# Altium integrated library Analog Devices Data Converters Analog-to-Digital Converters.IntLib: 2400 symbols (part 315 of 338)
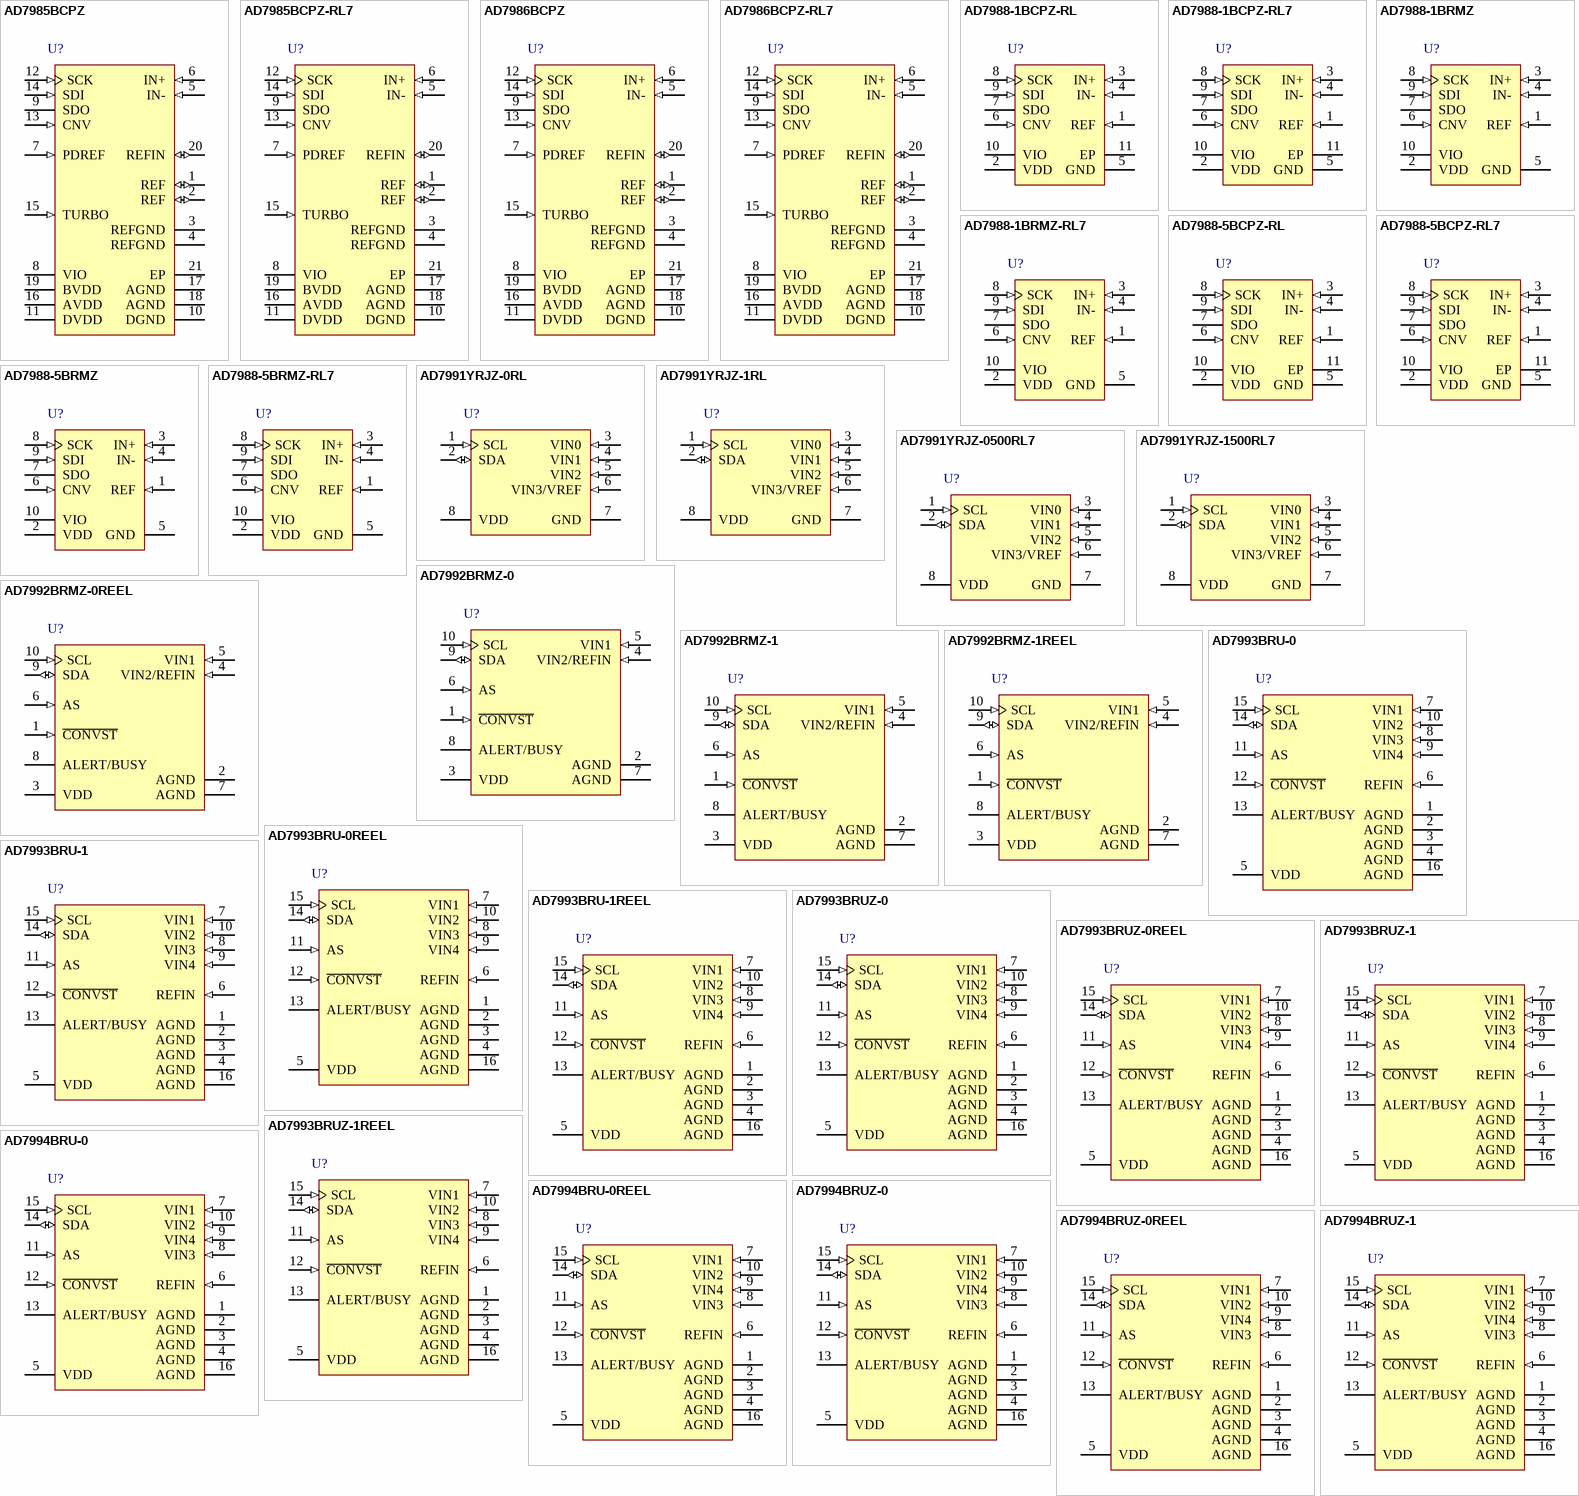
[diagram p327: symbols AD7985BCPZ to AD7994BRUZ-1]

## AD7988-1BCPZ-RL
designator U?
Single 16-Bit PulSAR Analog-to-Digital Converter with Serial, SPI Interface, 100KSPS, -40 to +125 degC, CP-10-9, Pb-Free, Reel; Part Number: AD7988-1; Manufacturer: Analog Devices; Resolution (Bits): 16; Channels: 1; Throughput Rate (SPS): 100K; Interface: Ser, SPI; DatasheetVersion: Rev.A; PackageVersion: 02-27-2012-B; PackageReference: CP-10-9; PackageDescription: 10-Lead Lead Frame Chip Scale Package [LFCSP_WD] 3 x 3 mm Body, Very Very Thin, Dual Lead; RoHS: Y; Packing: Reel; Mounting Technology: Surface Mount; ComponentLink1Description: Manufacturer URL; ComponentLink1URL: http://www.analog.com/en/index.html; ComponentLink2Description: Datasheet; ComponentLink2URL: http://www.analog.com/static/imported-files/data_sheets/AD7988-1_7988-5.pdf; ComponentLink3Description: Package Specification; ComponentLink3URL: http://www.analog.com/static/imported-files/packages/CP_10_9.pdf; ComponentLink4Description: Product URL; ComponentLink4URL: http://www.analog.com/en/analog-to-digital-converters/ad-converters/ad7988-1/products/product.html
footprint CP-10-9_N (SON, 10-Leads, Body 3x3mm, Pitch 0.5mm, Thermal Pad 2.35x1.6mm, IPC Medium Density)
footprint CP-10-9_L (SON, 10-Leads, Body 3x3mm, Pitch 0.5mm, Thermal Pad 2.35x1.6mm, IPC High Density)
footprint CP-10-9_M (SON, 10-Leads, Body 3x3mm, Pitch 0.5mm, Thermal Pad 2.35x1.6mm, IPC Low Density)
pins: 1 REF (in) "Reference Input Voltage. The VREF range is from 2.4 V to 5.1 V. It is referred to the GND pin. The GND pin should be decoupled closely to the REF pin with a 10 uF capacitor.", 2 VDD (power) "Power Supply.", 3 IN+ (in) "Analog Input. It is referred to IN-. The voltage range, for example, the difference between IN+ and IN-, is 0 V to VREF.", 4 IN- (in) "Analog Input Ground Sense. Connect to the analog ground plane or to a remote sense ground.", 5 GND (power) "Power Supply Ground.", 6 CNV (in) "Convert Input. This input has multiple functions. On its leading edge, it initiates the conversions and selects the interface mode of the part: chain mode or C\S\ mode. In C\S\ mode, the SDO pin is enabled when CNV is low. (See Datasheet)", 7 SDO (hiz) "Serial Data Output. The conversion result is output on this pin. It is synchronized to SCK.", 8 SCK (in) "Serial Data Clock Input. When the part is selected, the conversion result is shifted out by this clock.", 9 SDI (in) "Serial Data Input. This input provides multiple features. It selects the interface mode of the ADC as follows: Chain mode is selected if this pin is low during the CNV rising edge. In this mode, SDI is used as a data input (See Datasheet)", 10 VIO (power) "Input/Output Interface Digital Power. Nominally at the same supply as the host interface (1.8 V, 2.5 V, 3 V, or 5 V).", 11 EP (power) "Exposed Pad. The exposed pad can be connected to GND."

## AD7988-1BCPZ-RL7
designator U?
Single 16-Bit PulSAR Analog-to-Digital Converter with Serial, SPI Interface, 100KSPS, -40 to +125 degC, CP-10-9, Pb-Free, Reel; Part Number: AD7988-1; Manufacturer: Analog Devices; Resolution (Bits): 16; Channels: 1; Throughput Rate (SPS): 100K; Interface: Ser, SPI; DatasheetVersion: Rev.A; PackageVersion: 02-27-2012-B; PackageReference: CP-10-9; PackageDescription: 10-Lead Lead Frame Chip Scale Package [LFCSP_WD] 3 x 3 mm Body, Very Very Thin, Dual Lead; RoHS: Y; Packing: Reel; Mounting Technology: Surface Mount; ComponentLink1Description: Manufacturer URL; ComponentLink1URL: http://www.analog.com/en/index.html; ComponentLink2Description: Datasheet; ComponentLink2URL: http://www.analog.com/static/imported-files/data_sheets/AD7988-1_7988-5.pdf; ComponentLink3Description: Package Specification; ComponentLink3URL: http://www.analog.com/static/imported-files/packages/CP_10_9.pdf; ComponentLink4Description: Product URL; ComponentLink4URL: http://www.analog.com/en/analog-to-digital-converters/ad-converters/ad7988-1/products/product.html
footprint CP-10-9_N (SON, 10-Leads, Body 3x3mm, Pitch 0.5mm, Thermal Pad 2.35x1.6mm, IPC Medium Density)
footprint CP-10-9_L (SON, 10-Leads, Body 3x3mm, Pitch 0.5mm, Thermal Pad 2.35x1.6mm, IPC High Density)
footprint CP-10-9_M (SON, 10-Leads, Body 3x3mm, Pitch 0.5mm, Thermal Pad 2.35x1.6mm, IPC Low Density)
pins: 1 REF (in) "Reference Input Voltage. The VREF range is from 2.4 V to 5.1 V. It is referred to the GND pin. The GND pin should be decoupled closely to the REF pin with a 10 uF capacitor.", 2 VDD (power) "Power Supply.", 3 IN+ (in) "Analog Input. It is referred to IN-. The voltage range, for example, the difference between IN+ and IN-, is 0 V to VREF.", 4 IN- (in) "Analog Input Ground Sense. Connect to the analog ground plane or to a remote sense ground.", 5 GND (power) "Power Supply Ground.", 6 CNV (in) "Convert Input. This input has multiple functions. On its leading edge, it initiates the conversions and selects the interface mode of the part: chain mode or C\S\ mode. In C\S\ mode, the SDO pin is enabled when CNV is low. (See Datasheet)", 7 SDO (hiz) "Serial Data Output. The conversion result is output on this pin. It is synchronized to SCK.", 8 SCK (in) "Serial Data Clock Input. When the part is selected, the conversion result is shifted out by this clock.", 9 SDI (in) "Serial Data Input. This input provides multiple features. It selects the interface mode of the ADC as follows: Chain mode is selected if this pin is low during the CNV rising edge. In this mode, SDI is used as a data input (See Datasheet)", 10 VIO (power) "Input/Output Interface Digital Power. Nominally at the same supply as the host interface (1.8 V, 2.5 V, 3 V, or 5 V).", 11 EP (power) "Exposed Pad. The exposed pad can be connected to GND."

## AD7988-1BRMZ
designator U?
Single 16-Bit PulSAR Analog-to-Digital Converter with Serial, SPI Interface, 100KSPS, -40 to +125 degC, RM-10, Pb-Free, Tube; Part Number: AD7988-1; Manufacturer: Analog Devices; Resolution (Bits): 16; Channels: 1; Throughput Rate (SPS): 100K; Interface: Ser, SPI; DatasheetVersion: Rev.A; PackageVersion: May-2005; PackageReference: RM-10; PackageDescription: 10-Lead Mini Small Outline Package [MSOP]; RoHS: Y; Packing: Tube; Mounting Technology: Surface Mount; ComponentLink1Description: Manufacturer URL; ComponentLink1URL: http://www.analog.com/en/index.html; ComponentLink2Description: Datasheet; ComponentLink2URL: http://www.analog.com/static/imported-files/data_sheets/AD7988-1_7988-5.pdf; ComponentLink3Description: Package Specification; ComponentLink3URL: http://www.analog.com/static/imported-files/packages/PKG_PDF/MSOP%28RM%29/RM_10.pdf; ComponentLink4Description: Product URL; ComponentLink4URL: http://www.analog.com/en/analog-to-digital-converters/ad-converters/ad7988-1/products/product.html
footprint RM-10_N (TSSOP, 10-Leads, Body 3x3mm, Pitch 0.5mm, IPC Medium Density)
footprint RM-10_L (TSSOP, 10-Leads, Body 3x3mm, Pitch 0.5mm, IPC High Density)
footprint RM-10_M (TSSOP, 10-Leads, Body 3x3mm, Pitch 0.5mm, IPC Low Density)
pins: 1 REF (in) "Reference Input Voltage. The VREF range is from 2.4 V to 5.1 V. It is referred to the GND pin. The GND pin should be decoupled closely to the REF pin with a 10 uF capacitor.", 2 VDD (power) "Power Supply.", 3 IN+ (in) "Analog Input. It is referred to IN-. The voltage range, for example, the difference between IN+ and IN-, is 0 V to VREF.", 4 IN- (in) "Analog Input Ground Sense. Connect to the analog ground plane or to a remote sense ground.", 5 GND (power) "Power Supply Ground.", 6 CNV (in) "Convert Input. This input has multiple functions. On its leading edge, it initiates the conversions and selects the interface mode of the part: chain mode or C\S\ mode. In C\S\ mode, the SDO pin is enabled when CNV is low. (See Datasheet)", 7 SDO (hiz) "Serial Data Output. The conversion result is output on this pin. It is synchronized to SCK.", 8 SCK (in) "Serial Data Clock Input. When the part is selected, the conversion result is shifted out by this clock.", 9 SDI (in) "Serial Data Input. This input provides multiple features. It selects the interface mode of the ADC as follows: Chain mode is selected if this pin is low during the CNV rising edge. In this mode, SDI is used as a data input (See Datasheet)", 10 VIO (power) "Input/Output Interface Digital Power. Nominally at the same supply as the host interface (1.8 V, 2.5 V, 3 V, or 5 V)."

## AD7988-1BRMZ-RL7
designator U?
Single 16-Bit PulSAR Analog-to-Digital Converter with Serial, SPI Interface, 100KSPS, -40 to +125 degC, RM-10, Pb-Free, Reel; Part Number: AD7988-1; Manufacturer: Analog Devices; Resolution (Bits): 16; Channels: 1; Throughput Rate (SPS): 100K; Interface: Ser, SPI; DatasheetVersion: Rev.A; PackageVersion: May-2005; PackageReference: RM-10; PackageDescription: 10-Lead Mini Small Outline Package [MSOP]; RoHS: Y; Packing: Reel; Mounting Technology: Surface Mount; ComponentLink1Description: Manufacturer URL; ComponentLink1URL: http://www.analog.com/en/index.html; ComponentLink2Description: Datasheet; ComponentLink2URL: http://www.analog.com/static/imported-files/data_sheets/AD7988-1_7988-5.pdf; ComponentLink3Description: Package Specification; ComponentLink3URL: http://www.analog.com/static/imported-files/packages/PKG_PDF/MSOP%28RM%29/RM_10.pdf; ComponentLink4Description: Product URL; ComponentLink4URL: http://www.analog.com/en/analog-to-digital-converters/ad-converters/ad7988-1/products/product.html
footprint RM-10_N (TSSOP, 10-Leads, Body 3x3mm, Pitch 0.5mm, IPC Medium Density)
footprint RM-10_L (TSSOP, 10-Leads, Body 3x3mm, Pitch 0.5mm, IPC High Density)
footprint RM-10_M (TSSOP, 10-Leads, Body 3x3mm, Pitch 0.5mm, IPC Low Density)
pins: 1 REF (in) "Reference Input Voltage. The VREF range is from 2.4 V to 5.1 V. It is referred to the GND pin. The GND pin should be decoupled closely to the REF pin with a 10 uF capacitor.", 2 VDD (power) "Power Supply.", 3 IN+ (in) "Analog Input. It is referred to IN-. The voltage range, for example, the difference between IN+ and IN-, is 0 V to VREF.", 4 IN- (in) "Analog Input Ground Sense. Connect to the analog ground plane or to a remote sense ground.", 5 GND (power) "Power Supply Ground.", 6 CNV (in) "Convert Input. This input has multiple functions. On its leading edge, it initiates the conversions and selects the interface mode of the part: chain mode or C\S\ mode. In C\S\ mode, the SDO pin is enabled when CNV is low. (See Datasheet)", 7 SDO (hiz) "Serial Data Output. The conversion result is output on this pin. It is synchronized to SCK.", 8 SCK (in) "Serial Data Clock Input. When the part is selected, the conversion result is shifted out by this clock.", 9 SDI (in) "Serial Data Input. This input provides multiple features. It selects the interface mode of the ADC as follows: Chain mode is selected if this pin is low during the CNV rising edge. In this mode, SDI is used as a data input (See Datasheet)", 10 VIO (power) "Input/Output Interface Digital Power. Nominally at the same supply as the host interface (1.8 V, 2.5 V, 3 V, or 5 V)."

## AD7988-5BCPZ-RL
designator U?
Single 16-Bit PulSAR Analog-to-Digital Converter with Serial, SPI Interface, 500KSPS, -40 to +125 degC, CP-10-9, Pb-Free, Reel; Part Number: AD7988-5; Manufacturer: Analog Devices; Resolution (Bits): 16; Channels: 1; Throughput Rate (SPS): 500K; Interface: Ser, SPI; DatasheetVersion: Rev.A; PackageVersion: 02-27-2012-B; PackageReference: CP-10-9; PackageDescription: 10-Lead Lead Frame Chip Scale Package [LFCSP_WD] 3 x 3 mm Body, Very Very Thin, Dual Lead; RoHS: Y; Packing: Reel; Mounting Technology: Surface Mount; ComponentLink1Description: Manufacturer URL; ComponentLink1URL: http://www.analog.com/en/index.html; ComponentLink2Description: Datasheet; ComponentLink2URL: http://www.analog.com/static/imported-files/data_sheets/AD7988-1_7988-5.pdf; ComponentLink3Description: Package Specification; ComponentLink3URL: http://www.analog.com/static/imported-files/packages/CP_10_9.pdf; ComponentLink4Description: Product URL; ComponentLink4URL: http://www.analog.com/en/analog-to-digital-converters/ad-converters/ad7988-5/products/product.html
footprint CP-10-9_N (SON, 10-Leads, Body 3x3mm, Pitch 0.5mm, Thermal Pad 2.35x1.6mm, IPC Medium Density)
footprint CP-10-9_L (SON, 10-Leads, Body 3x3mm, Pitch 0.5mm, Thermal Pad 2.35x1.6mm, IPC High Density)
footprint CP-10-9_M (SON, 10-Leads, Body 3x3mm, Pitch 0.5mm, Thermal Pad 2.35x1.6mm, IPC Low Density)
pins: 1 REF (in) "Reference Input Voltage. The VREF range is from 2.4 V to 5.1 V. It is referred to the GND pin. The GND pin should be decoupled closely to the REF pin with a 10 uF capacitor.", 2 VDD (power) "Power Supply.", 3 IN+ (in) "Analog Input. It is referred to IN?. The voltage range, for example, the difference between IN+ and IN-, is 0 V to VREF.", 4 IN- (in) "Analog Input Ground Sense. Connect to the analog ground plane or to a remote sense ground.", 5 GND (power) "Power Supply Ground.", 6 CNV (in) "Convert Input. This input has multiple functions. On its leading edge, it initiates the conversions and selects the interface mode of the part: chain mode or C\S\ mode. In C\S\ mode, the SDO pin is enabled when CNV is low. (See Datasheet)", 7 SDO (hiz) "Serial Data Output. The conversion result is output on this pin. It is synchronized to SCK.", 8 SCK (in) "Serial Data Clock Input. When the part is selected, the conversion result is shifted out by this clock.", 9 SDI (in) "Serial Data Input. This input provides multiple features. It selects the interface mode of the ADC as follows: Chain mode is selected if this pin is low during the CNV rising edge. In this mode, SDI is used as a data input (See Datasheet)", 10 VIO (power) "Input/Output Interface Digital Power. Nominally at the same supply as the host interface (1.8 V, 2.5 V, 3 V, or 5 V).", 11 EP (power) "Exposed Pad. The exposed pad can be connected to GND."

## AD7988-5BCPZ-RL7
designator U?
Single 16-Bit PulSAR Analog-to-Digital Converter with Serial, SPI Interface, 500KSPS, -40 to +125 degC, CP-10-9, Pb-Free, Reel; Part Number: AD7988-5; Manufacturer: Analog Devices; Resolution (Bits): 16; Channels: 1; Throughput Rate (SPS): 500K; Interface: Ser, SPI; DatasheetVersion: Rev.A; PackageVersion: 02-27-2012-B; PackageReference: CP-10-9; PackageDescription: 10-Lead Lead Frame Chip Scale Package [LFCSP_WD] 3 x 3 mm Body, Very Very Thin, Dual Lead; RoHS: Y; Packing: Reel; Mounting Technology: Surface Mount; ComponentLink1Description: Manufacturer URL; ComponentLink1URL: http://www.analog.com/en/index.html; ComponentLink2Description: Datasheet; ComponentLink2URL: http://www.analog.com/static/imported-files/data_sheets/AD7988-1_7988-5.pdf; ComponentLink3Description: Package Specification; ComponentLink3URL: http://www.analog.com/static/imported-files/packages/CP_10_9.pdf; ComponentLink4Description: Product URL; ComponentLink4URL: http://www.analog.com/en/analog-to-digital-converters/ad-converters/ad7988-5/products/product.html
footprint CP-10-9_N (SON, 10-Leads, Body 3x3mm, Pitch 0.5mm, Thermal Pad 2.35x1.6mm, IPC Medium Density)
footprint CP-10-9_L (SON, 10-Leads, Body 3x3mm, Pitch 0.5mm, Thermal Pad 2.35x1.6mm, IPC High Density)
footprint CP-10-9_M (SON, 10-Leads, Body 3x3mm, Pitch 0.5mm, Thermal Pad 2.35x1.6mm, IPC Low Density)
pins: 1 REF (in) "Reference Input Voltage. The VREF range is from 2.4 V to 5.1 V. It is referred to the GND pin. The GND pin should be decoupled closely to the REF pin with a 10 uF capacitor.", 2 VDD (power) "Power Supply.", 3 IN+ (in) "Analog Input. It is referred to IN?. The voltage range, for example, the difference between IN+ and IN-, is 0 V to VREF.", 4 IN- (in) "Analog Input Ground Sense. Connect to the analog ground plane or to a remote sense ground.", 5 GND (power) "Power Supply Ground.", 6 CNV (in) "Convert Input. This input has multiple functions. On its leading edge, it initiates the conversions and selects the interface mode of the part: chain mode or C\S\ mode. In C\S\ mode, the SDO pin is enabled when CNV is low. (See Datasheet)", 7 SDO (hiz) "Serial Data Output. The conversion result is output on this pin. It is synchronized to SCK.", 8 SCK (in) "Serial Data Clock Input. When the part is selected, the conversion result is shifted out by this clock.", 9 SDI (in) "Serial Data Input. This input provides multiple features. It selects the interface mode of the ADC as follows: Chain mode is selected if this pin is low during the CNV rising edge. In this mode, SDI is used as a data input (See Datasheet)", 10 VIO (power) "Input/Output Interface Digital Power. Nominally at the same supply as the host interface (1.8 V, 2.5 V, 3 V, or 5 V).", 11 EP (power) "Exposed Pad. The exposed pad can be connected to GND."

## AD7988-5BRMZ
designator U?
Single 16-Bit PulSAR Analog-to-Digital Converter with Serial, SPI Interface, 500KSPS, -40 to +125 degC, RM-10, Pb-Free, Tube; Part Number: AD7988-5; Manufacturer: Analog Devices; Resolution (Bits): 16; Channels: 1; Throughput Rate (SPS): 500K; Interface: Ser, SPI; DatasheetVersion: Rev.A; PackageVersion: May-2005; PackageReference: RM-10; PackageDescription: 10-Lead Mini Small Outline Package [MSOP]; RoHS: Y; Packing: Tube; Mounting Technology: Surface Mount; ComponentLink1Description: Manufacturer URL; ComponentLink1URL: http://www.analog.com/en/index.html; ComponentLink2Description: Datasheet; ComponentLink2URL: http://www.analog.com/static/imported-files/data_sheets/AD7988-1_7988-5.pdf; ComponentLink3Description: Package Specification; ComponentLink3URL: http://www.analog.com/static/imported-files/packages/PKG_PDF/MSOP%28RM%29/RM_10.pdf; ComponentLink4Description: Product URL; ComponentLink4URL: http://www.analog.com/en/analog-to-digital-converters/ad-converters/ad7988-5/products/product.html
footprint RM-10_N (TSSOP, 10-Leads, Body 3x3mm, Pitch 0.5mm, IPC Medium Density)
footprint RM-10_L (TSSOP, 10-Leads, Body 3x3mm, Pitch 0.5mm, IPC High Density)
footprint RM-10_M (TSSOP, 10-Leads, Body 3x3mm, Pitch 0.5mm, IPC Low Density)
pins: 1 REF (in) "Reference Input Voltage. The VREF range is from 2.4 V to 5.1 V. It is referred to the GND pin. The GND pin should be decoupled closely to the REF pin with a 10 uF capacitor.", 2 VDD (power) "Power Supply", 3 IN+ (in) "Analog Input. It is referred to IN-. The voltage range, for example, the difference between IN+ and IN-, is 0 V to VREF", 4 IN- (in) "Analog Input Ground Sense. Connect to the analog ground plane or to a remote sense ground.", 5 GND (power) "Power Supply Ground.", 6 CNV (in) "Convert Input. This input has multiple functions. On its leading edge, it initiates the conversions and selects the interface mode of the part: chain mode or C\S\ mode. In C\S\ mode, the SDO pin is enabled when CNV is low. (See Datasheet)", 7 SDO (hiz) "Serial Data Output. The conversion result is output on this pin. It is synchronized to SCK.", 8 SCK (in) "Serial Data Clock Input. When the part is selected, the conversion result is shifted out by this clock.", 9 SDI (in) "Serial Data Input. This input provides multiple features. It selects the interface mode of the ADC as follows: Chain mode is selected if this pin is low during the CNV rising edge. In this mode, SDI is used as a data input (See Datasheet)", 10 VIO (power) "Input/Output Interface Digital Power. Nominally at the same supply as the host interface (1.8 V, 2.5 V, 3 V, or 5 V)."

## AD7988-5BRMZ-RL7
designator U?
Single 16-Bit PulSAR Analog-to-Digital Converter with Serial, SPI Interface, 500KSPS, -40 to +125 degC, RM-10, Pb-Free, Reel; Part Number: AD7988-5; Manufacturer: Analog Devices; Resolution (Bits): 16; Channels: 1; Throughput Rate (SPS): 500K; Interface: Ser, SPI; DatasheetVersion: Rev.A; PackageVersion: May-2005; PackageReference: RM-10; PackageDescription: 10-Lead Mini Small Outline Package [MSOP]; RoHS: Y; Packing: Reel; Mounting Technology: Surface Mount; ComponentLink1Description: Manufacturer URL; ComponentLink1URL: http://www.analog.com/en/index.html; ComponentLink2Description: Datasheet; ComponentLink2URL: http://www.analog.com/static/imported-files/data_sheets/AD7988-1_7988-5.pdf; ComponentLink3Description: Package Specification; ComponentLink3URL: http://www.analog.com/static/imported-files/packages/PKG_PDF/MSOP%28RM%29/RM_10.pdf; ComponentLink4Description: Product URL; ComponentLink4URL: http://www.analog.com/en/analog-to-digital-converters/ad-converters/ad7988-5/products/product.html
footprint RM-10_N (TSSOP, 10-Leads, Body 3x3mm, Pitch 0.5mm, IPC Medium Density)
footprint RM-10_L (TSSOP, 10-Leads, Body 3x3mm, Pitch 0.5mm, IPC High Density)
footprint RM-10_M (TSSOP, 10-Leads, Body 3x3mm, Pitch 0.5mm, IPC Low Density)
pins: 1 REF (in) "Reference Input Voltage. The VREF range is from 2.4 V to 5.1 V. It is referred to the GND pin. The GND pin should be decoupled closely to the REF pin with a 10 uF capacitor.", 2 VDD (power) "Power Supply", 3 IN+ (in) "Analog Input. It is referred to IN-. The voltage range, for example, the difference between IN+ and IN-, is 0 V to VREF", 4 IN- (in) "Analog Input Ground Sense. Connect to the analog ground plane or to a remote sense ground.", 5 GND (power) "Power Supply Ground.", 6 CNV (in) "Convert Input. This input has multiple functions. On its leading edge, it initiates the conversions and selects the interface mode of the part: chain mode or C\S\ mode. In C\S\ mode, the SDO pin is enabled when CNV is low. (See Datasheet)", 7 SDO (hiz) "Serial Data Output. The conversion result is output on this pin. It is synchronized to SCK.", 8 SCK (in) "Serial Data Clock Input. When the part is selected, the conversion result is shifted out by this clock.", 9 SDI (in) "Serial Data Input. This input provides multiple features. It selects the interface mode of the ADC as follows: Chain mode is selected if this pin is low during the CNV rising edge. In this mode, SDI is used as a data input (See Datasheet)", 10 VIO (power) "Input/Output Interface Digital Power. Nominally at the same supply as the host interface (1.8 V, 2.5 V, 3 V, or 5 V)."

## AD7991YRJZ-0RL
designator U?
Quad 12-Bit Analog-to-Digital Converter with I2C, Serial 2-Wire Interface, 140KSPS, -40 to +125 degC, RJ-8, Pb-Free, Reel; Part Number: AD7991; Manufacturer: Analog Devices; Resolution (Bits): 12; Channels: 4; Throughput Rate (SPS): 140K; Interface: I2C/Ser 2-Wire; DatasheetVersion: Rev.B; PackageVersion: 121608-A; PackageReference: RJ-8; PackageDescription: 8-Lead Thin Small Outline Transistor Package [SOT-23]; RoHS: Y; Packing: Reel; Mounting Technology: Surface Mount; Code_JEDEC: MO-178-BA; ComponentLink1Description: Manufacturer URL; ComponentLink1URL: http://www.analog.com/en/index.html; ComponentLink2Description: Datasheet; ComponentLink2URL: http://www.analog.com/static/imported-files/data_sheets/AD7991_7995_7999.pdf; ComponentLink3Description: Package Specification; ComponentLink3URL: http://www.analog.com/static/imported-files/packages/PKG_PDF/SOT-23(RJ)/RJ_8.pdf; ComponentLink4Description: Product URL; ComponentLink4URL: http://www.analog.com/en/analog-to-digital-converters/ad-converters/ad7991/products/product.html
footprint RJ-8_N (SOP, 8-Leads, Body 2.9x1.6mm, Pitch 0.65mm, IPC Medium Density)
footprint RJ-8_L (SOP, 8-Leads, Body 2.9x1.6mm, Pitch 0.65mm, IPC High Density)
footprint RJ-8_M (SOP, 8-Leads, Body 2.9x1.6mm, Pitch 0.65mm, IPC Low Density)
pins: 1 SCL (in) "Digital Input. Serial bus clock. External pull-up resistor required.", 2 SDA (io) "Digital I/O. Serial bus bidirectional data. Open-drain output. External pull-up resistor required.", 3 VIN0 (in) "Analog Input 1. Single-ended analog input channel. The input range is 0 V to VREF.", 4 VIN1 (in) "Analog Input 2. Single-ended analog input channel. The input range is 0 V to VREF.", 5 VIN2 (in) "Analog Input 3. Single-ended analog input channel. The input range is 0 V to VREF.", 6 VIN3/VREF (in) "Analog Input 4. Single-ended analog input channel. The input range is 0 V to VREF. Can also be used to input an external VREF signal.", 7 GND (power) "Analog Ground. Ground reference point for all circuitry on the AD7991/AD7995/AD7999. All analog input signals should be referred to this AGND voltage.", 8 VDD (power) "Power Supply Input. The VDD range for the AD7991/AD7995/AD7999 is from 2.7 V to 5.5 V."

## AD7991YRJZ-1RL
designator U?
Quad 12-Bit Analog-to-Digital Converter with I2C, Serial 2-Wire Interface, 140KSPS, -40 to +125 degC, RJ-8, Pb-Free, Reel; Part Number: AD7991; Manufacturer: Analog Devices; Resolution (Bits): 12; Channels: 4; Throughput Rate (SPS): 140K; Interface: I2C/Ser 2-Wire; DatasheetVersion: Rev.B; PackageVersion: 121608-A; PackageReference: RJ-8; PackageDescription: 8-Lead Thin Small Outline Transistor Package [SOT-23]; RoHS: Y; Packing: Reel; Mounting Technology: Surface Mount; Code_JEDEC: MO-178-BA; ComponentLink1Description: Manufacturer URL; ComponentLink1URL: http://www.analog.com/en/index.html; ComponentLink2Description: Datasheet; ComponentLink2URL: http://www.analog.com/static/imported-files/data_sheets/AD7991_7995_7999.pdf; ComponentLink3Description: Package Specification; ComponentLink3URL: http://www.analog.com/static/imported-files/packages/PKG_PDF/SOT-23(RJ)/RJ_8.pdf; ComponentLink4Description: Product URL; ComponentLink4URL: http://www.analog.com/en/analog-to-digital-converters/ad-converters/ad7991/products/product.html
footprint RJ-8_N (SOP, 8-Leads, Body 2.9x1.6mm, Pitch 0.65mm, IPC Medium Density)
footprint RJ-8_L (SOP, 8-Leads, Body 2.9x1.6mm, Pitch 0.65mm, IPC High Density)
footprint RJ-8_M (SOP, 8-Leads, Body 2.9x1.6mm, Pitch 0.65mm, IPC Low Density)
pins: 1 SCL (in) "Digital Input. Serial bus clock. External pull-up resistor required.", 2 SDA (io) "Digital I/O. Serial bus bidirectional data. Open-drain output. External pull-up resistor required.", 3 VIN0 (in) "Analog Input 1. Single-ended analog input channel. The input range is 0 V to VREF.", 4 VIN1 (in) "Analog Input 2. Single-ended analog input channel. The input range is 0 V to VREF.", 5 VIN2 (in) "Analog Input 3. Single-ended analog input channel. The input range is 0 V to VREF.", 6 VIN3/VREF (in) "Analog Input 4. Single-ended analog input channel. The input range is 0 V to VREF. Can also be used to input an external VREF signal.", 7 GND (power) "Analog Ground. Ground reference point for all circuitry on the AD7991/AD7995/AD7999. All analog input signals should be referred to this AGND voltage.", 8 VDD (power) "Power Supply Input. The VDD range for the AD7991/AD7995/AD7999 is from 2.7 V to 5.5 V."

## AD7991YRJZ-0500RL7
designator U?
Quad 12-Bit Analog-to-Digital Converter with I2C, Serial 2-Wire Interface, 140KSPS, -40 to +125 degC, RJ-8, Pb-Free, Reel; Part Number: AD7991; Manufacturer: Analog Devices; Resolution (Bits): 12; Channels: 4; Throughput Rate (SPS): 140K; Interface: I2C/Ser 2-Wire; DatasheetVersion: Rev.B; PackageVersion: 121608-A; PackageReference: RJ-8; PackageDescription: 8-Lead Thin Small Outline Transistor Package [SOT-23]; RoHS: Y; Packing: Reel; Mounting Technology: Surface Mount; Code_JEDEC: MO-178-BA; ComponentLink1Description: Manufacturer URL; ComponentLink1URL: http://www.analog.com/en/index.html; ComponentLink2Description: Datasheet; ComponentLink2URL: http://www.analog.com/static/imported-files/data_sheets/AD7991_7995_7999.pdf; ComponentLink3Description: Package Specification; ComponentLink3URL: http://www.analog.com/static/imported-files/packages/PKG_PDF/SOT-23(RJ)/RJ_8.pdf; ComponentLink4Description: Product URL; ComponentLink4URL: http://www.analog.com/en/analog-to-digital-converters/ad-converters/ad7991/products/product.html
footprint RJ-8_N (SOP, 8-Leads, Body 2.9x1.6mm, Pitch 0.65mm, IPC Medium Density)
footprint RJ-8_L (SOP, 8-Leads, Body 2.9x1.6mm, Pitch 0.65mm, IPC High Density)
footprint RJ-8_M (SOP, 8-Leads, Body 2.9x1.6mm, Pitch 0.65mm, IPC Low Density)
pins: 1 SCL (in) "Digital Input. Serial bus clock. External pull-up resistor required.", 2 SDA (io) "Digital I/O. Serial bus bidirectional data. Open-drain output. External pull-up resistor required.", 3 VIN0 (in) "Analog Input 1. Single-ended analog input channel. The input range is 0 V to VREF.", 4 VIN1 (in) "Analog Input 2. Single-ended analog input channel. The input range is 0 V to VREF.", 5 VIN2 (in) "Analog Input 3. Single-ended analog input channel. The input range is 0 V to VREF.", 6 VIN3/VREF (in) "Analog Input 4. Single-ended analog input channel. The input range is 0 V to VREF. Can also be used to input an external VREF signal.", 7 GND (power) "Analog Ground. Ground reference point for all circuitry on the AD7991/AD7995/AD7999. All analog input signals should be referred to this AGND voltage.", 8 VDD (power) "Power Supply Input. The VDD range for the AD7991/AD7995/AD7999 is from 2.7 V to 5.5 V."

## AD7991YRJZ-1500RL7
designator U?
Quad 12-Bit Analog-to-Digital Converter with I2C, Serial 2-Wire Interface, 140KSPS, -40 to +125 degC, RJ-8, Pb-Free, Reel; Part Number: AD7991; Manufacturer: Analog Devices; Resolution (Bits): 12; Channels: 4; Throughput Rate (SPS): 140K; Interface: I2C/Ser 2-Wire; DatasheetVersion: Rev.B; PackageVersion: 121608-A; PackageReference: RJ-8; PackageDescription: 8-Lead Thin Small Outline Transistor Package [SOT-23]; RoHS: Y; Packing: Reel; Mounting Technology: Surface Mount; Code_JEDEC: MO-178-BA; ComponentLink1Description: Manufacturer URL; ComponentLink1URL: http://www.analog.com/en/index.html; ComponentLink2Description: Datasheet; ComponentLink2URL: http://www.analog.com/static/imported-files/data_sheets/AD7991_7995_7999.pdf; ComponentLink3Description: Package Specification; ComponentLink3URL: http://www.analog.com/static/imported-files/packages/PKG_PDF/SOT-23(RJ)/RJ_8.pdf; ComponentLink4Description: Product URL; ComponentLink4URL: http://www.analog.com/en/analog-to-digital-converters/ad-converters/ad7991/products/product.html
footprint RJ-8_N (SOP, 8-Leads, Body 2.9x1.6mm, Pitch 0.65mm, IPC Medium Density)
footprint RJ-8_L (SOP, 8-Leads, Body 2.9x1.6mm, Pitch 0.65mm, IPC High Density)
footprint RJ-8_M (SOP, 8-Leads, Body 2.9x1.6mm, Pitch 0.65mm, IPC Low Density)
pins: 1 SCL (in) "Digital Input. Serial bus clock. External pull-up resistor required.", 2 SDA (io) "Digital I/O. Serial bus bidirectional data. Open-drain output. External pull-up resistor required.", 3 VIN0 (in) "Analog Input 1. Single-ended analog input channel. The input range is 0 V to VREF.", 4 VIN1 (in) "Analog Input 2. Single-ended analog input channel. The input range is 0 V to VREF.", 5 VIN2 (in) "Analog Input 3. Single-ended analog input channel. The input range is 0 V to VREF.", 6 VIN3/VREF (in) "Analog Input 4. Single-ended analog input channel. The input range is 0 V to VREF. Can also be used to input an external VREF signal.", 7 GND (power) "Analog Ground. Ground reference point for all circuitry on the AD7991/AD7995/AD7999. All analog input signals should be referred to this AGND voltage.", 8 VDD (power) "Power Supply Input. The VDD range for the AD7991/AD7995/AD7999 is from 2.7 V to 5.5 V."

## AD7992BRMZ-0
designator U?
Dual 12-Bit Analog-to-Digital Converter with I2C / Ser 2-Wire, Serial Interface, 79KSPS, -40 to +125 degC, RM-10, Pb-Free, Tube; Part Number: AD7992; Manufacturer: Analog Devices; Resolution (Bits): 12; Channels: 2; Throughput Rate (SPS): 79K; DatasheetVersion: Rev.0; PackageVersion: May-2005; PackageReference: RM-10; PackageDescription: 10-Lead Mini Small Outline Package [MSOP]; Interface: I2C/Ser 2-Wire, Ser; RoHS: Y; Packing: Tube; Mounting Technology: Surface Mount; ComponentLink1Description: Manufacturer URL; ComponentLink1URL: http://www.analog.com/en/index.html; ComponentLink2Description: Datasheet; ComponentLink2URL: http://www.analog.com/static/imported-files/data_sheets/AD7992.pdf; ComponentLink3Description: Package Specification; ComponentLink3URL: http://www.analog.com/static/imported-files/packages/PKG_PDF/MSOP%28RM%29/RM_10.pdf; ComponentLink4Description: Product URL; ComponentLink4URL: http://www.analog.com/en/analog-to-digital-converters/ad-converters/ad7992/products/product.html
footprint RM-10_N (TSSOP, 10-Leads, Body 3x3mm, Pitch 0.5mm, IPC Medium Density)
footprint RM-10_L (TSSOP, 10-Leads, Body 3x3mm, Pitch 0.5mm, IPC High Density)
footprint RM-10_M (TSSOP, 10-Leads, Body 3x3mm, Pitch 0.5mm, IPC Low Density)
pins: 1 ~{CONVST} (in) "Logic Input Signal. Convert start signal. This is an edge-triggered logic input. The rising edge of this signal powers up the part. The power up time for the part is 1 us. The falling edge of C\O\N\V\S\T\ places the (See Datasheet)", 2 AGND (power) "Analog Ground. Ground reference point for all circuitry on the AD7992. All analog input signals should be referred to this GND voltage.", 3 VDD (power) "Power Supply Input. The VDD range for the AD7992 is from 2.7 V to 5.5 V.", 4 VIN2/REFIN (in) "Analog Input 2/Voltage Reference Input. In single-channel mode, this pin becomes the reference voltage input; an external reference should be applied at this pin. The external reference input range is 1.2 V to VDD. A 0.1 uF (See Datasheet)", 5 VIN1 (in) "Analog Input 1. Single-ended analog input channel. The input range is 0 V to REFIN.", 6 AS (in) "Logic Input. Address select input that selects one of three I2C addresses for the AD7992, as shown in Table 6.", 7 AGND (power) "Analog Ground. Ground reference point for all circuitry on the AD7992. All analog input signals should be referred to this GND voltage.", 8 ALERT/BUSY (oc) "Digital Output. Selectable as an ALERT or BUSY output function. When configured as an ALERT, this pin acts as an out-of-range indicator and, if enabled, becomes active when the conversion result violates the DATAHIGH or (See Datasheet)", 9 SDA (io) "Digital I/O. Serial bus bidirectional data. Open-drain output. An external pull-up resistor is required.", 10 SCL (in) "Digital Input. Serial bus clock. Open-drain output. An external pull-up resistor is required."

## AD7992BRMZ-0REEL
designator U?
Dual 12-Bit Analog-to-Digital Converter with I2C / Ser 2-Wire, Serial Interface, 79KSPS, -40 to +125 degC, RM-10, Pb-Free, Reel; Part Number: AD7992; Manufacturer: Analog Devices; Resolution (Bits): 12; Channels: 2; Throughput Rate (SPS): 79K; DatasheetVersion: Rev.0; PackageVersion: May-2005; PackageReference: RM-10; PackageDescription: 10-Lead Mini Small Outline Package [MSOP]; Interface: I2C/Ser 2-Wire, Ser; RoHS: Y; Packing: Reel; Mounting Technology: Surface Mount; ComponentLink1Description: Manufacturer URL; ComponentLink1URL: http://www.analog.com/en/index.html; ComponentLink2Description: Datasheet; ComponentLink2URL: http://www.analog.com/static/imported-files/data_sheets/AD7992.pdf; ComponentLink3Description: Package Specification; ComponentLink3URL: http://www.analog.com/static/imported-files/packages/PKG_PDF/MSOP%28RM%29/RM_10.pdf; ComponentLink4Description: Product URL; ComponentLink4URL: http://www.analog.com/en/analog-to-digital-converters/ad-converters/ad7992/products/product.html
footprint RM-10_N (TSSOP, 10-Leads, Body 3x3mm, Pitch 0.5mm, IPC Medium Density)
footprint RM-10_L (TSSOP, 10-Leads, Body 3x3mm, Pitch 0.5mm, IPC High Density)
footprint RM-10_M (TSSOP, 10-Leads, Body 3x3mm, Pitch 0.5mm, IPC Low Density)
pins: 1 ~{CONVST} (in) "Logic Input Signal. Convert start signal. This is an edge-triggered logic input. The rising edge of this signal powers up the part. The power up time for the part is 1 us. The falling edge of C\O\N\V\S\T\ places the (See Datasheet)", 2 AGND (power) "Analog Ground. Ground reference point for all circuitry on the AD7992. All analog input signals should be referred to this GND voltage.", 3 VDD (power) "Power Supply Input. The VDD range for the AD7992 is from 2.7 V to 5.5 V.", 4 VIN2/REFIN (in) "Analog Input 2/Voltage Reference Input. In single-channel mode, this pin becomes the reference voltage input; an external reference should be applied at this pin. The external reference input range is 1.2 V to VDD. A 0.1 uF (See Datasheet)", 5 VIN1 (in) "Analog Input 1. Single-ended analog input channel. The input range is 0 V to REFIN.", 6 AS (in) "Logic Input. Address select input that selects one of three I2C addresses for the AD7992, as shown in Table 6.", 7 AGND (power) "Analog Ground. Ground reference point for all circuitry on the AD7992. All analog input signals should be referred to this GND voltage.", 8 ALERT/BUSY (oc) "Digital Output. Selectable as an ALERT or BUSY output function. When configured as an ALERT, this pin acts as an out-of-range indicator and, if enabled, becomes active when the conversion result violates the DATAHIGH or (See Datasheet)", 9 SDA (io) "Digital I/O. Serial bus bidirectional data. Open-drain output. An external pull-up resistor is required.", 10 SCL (in) "Digital Input. Serial bus clock. Open-drain output. An external pull-up resistor is required."

## AD7992BRMZ-1
designator U?
Dual 12-Bit Analog-to-Digital Converter with I2C / Ser 2-Wire, Serial Interface, 79KSPS, -40 to +125 degC, RM-10, Pb-Free, Tube; Part Number: AD7992; Manufacturer: Analog Devices; Resolution (Bits): 12; Channels: 2; Throughput Rate (SPS): 79K; DatasheetVersion: Rev.0; PackageVersion: May-2005; PackageReference: RM-10; PackageDescription: 10-Lead Mini Small Outline Package [MSOP]; Interface: I2C/Ser 2-Wire, Ser; RoHS: Y; Packing: Tube; Mounting Technology: Surface Mount; ComponentLink1Description: Manufacturer URL; ComponentLink1URL: http://www.analog.com/en/index.html; ComponentLink2Description: Datasheet; ComponentLink2URL: http://www.analog.com/static/imported-files/data_sheets/AD7992.pdf; ComponentLink3Description: Package Specification; ComponentLink3URL: http://www.analog.com/static/imported-files/packages/PKG_PDF/MSOP%28RM%29/RM_10.pdf; ComponentLink4Description: Product URL; ComponentLink4URL: http://www.analog.com/en/analog-to-digital-converters/ad-converters/ad7992/products/product.html
footprint RM-10_N (TSSOP, 10-Leads, Body 3x3mm, Pitch 0.5mm, IPC Medium Density)
footprint RM-10_L (TSSOP, 10-Leads, Body 3x3mm, Pitch 0.5mm, IPC High Density)
footprint RM-10_M (TSSOP, 10-Leads, Body 3x3mm, Pitch 0.5mm, IPC Low Density)
pins: 1 ~{CONVST} (in) "Logic Input Signal. Convert start signal. This is an edge-triggered logic input. The rising edge of this signal powers up the part. The power up time for the part is 1 us. The falling edge of C\O\N\V\S\T\ places the (See Datasheet)", 2 AGND (power) "Analog Ground. Ground reference point for all circuitry on the AD7992. All analog input signals should be referred to this GND voltage.", 3 VDD (power) "Power Supply Input. The VDD range for the AD7992 is from 2.7 V to 5.5 V.", 4 VIN2/REFIN (in) "Analog Input 2/Voltage Reference Input. In single-channel mode, this pin becomes the reference voltage input; an external reference should be applied at this pin. The external reference input range is 1.2 V to VDD. A 0.1 uF (See Datasheet)", 5 VIN1 (in) "Analog Input 1. Single-ended analog input channel. The input range is 0 V to REFIN.", 6 AS (in) "Logic Input. Address select input that selects one of three I2C addresses for the AD7992, as shown in Table 6.", 7 AGND (power) "Analog Ground. Ground reference point for all circuitry on the AD7992. All analog input signals should be referred to this GND voltage.", 8 ALERT/BUSY (oc) "Digital Output. Selectable as an ALERT or BUSY output function. When configured as an ALERT, this pin acts as an out-of-range indicator and, if enabled, becomes active when the conversion result violates the DATAHIGH or (See Datasheet)", 9 SDA (io) "Digital I/O. Serial bus bidirectional data. Open-drain output. An external pull-up resistor is required.", 10 SCL (in) "Digital Input. Serial bus clock. Open-drain output. An external pull-up resistor is required."

## AD7992BRMZ-1REEL
designator U?
Dual 12-Bit Analog-to-Digital Converter with I2C / Ser 2-Wire, Serial Interface, 79KSPS, -40 to +125 degC, RM-10, Pb-Free, Reel; Part Number: AD7992; Manufacturer: Analog Devices; Resolution (Bits): 12; Channels: 2; Throughput Rate (SPS): 79K; DatasheetVersion: Rev.0; PackageVersion: May-2005; PackageReference: RM-10; PackageDescription: 10-Lead Mini Small Outline Package [MSOP]; Interface: I2C/Ser 2-Wire, Ser; RoHS: Y; Packing: Reel; Mounting Technology: Surface Mount; ComponentLink1Description: Manufacturer URL; ComponentLink1URL: http://www.analog.com/en/index.html; ComponentLink2Description: Datasheet; ComponentLink2URL: http://www.analog.com/static/imported-files/data_sheets/AD7992.pdf; ComponentLink3Description: Package Specification; ComponentLink3URL: http://www.analog.com/static/imported-files/packages/PKG_PDF/MSOP%28RM%29/RM_10.pdf; ComponentLink4Description: Product URL; ComponentLink4URL: http://www.analog.com/en/analog-to-digital-converters/ad-converters/ad7992/products/product.html
footprint RM-10_N (TSSOP, 10-Leads, Body 3x3mm, Pitch 0.5mm, IPC Medium Density)
footprint RM-10_L (TSSOP, 10-Leads, Body 3x3mm, Pitch 0.5mm, IPC High Density)
footprint RM-10_M (TSSOP, 10-Leads, Body 3x3mm, Pitch 0.5mm, IPC Low Density)
pins: 1 ~{CONVST} (in) "Logic Input Signal. Convert start signal. This is an edge-triggered logic input. The rising edge of this signal powers up the part. The power up time for the part is 1 us. The falling edge of C\O\N\V\S\T\ places the (See Datasheet)", 2 AGND (power) "Analog Ground. Ground reference point for all circuitry on the AD7992. All analog input signals should be referred to this GND voltage.", 3 VDD (power) "Power Supply Input. The VDD range for the AD7992 is from 2.7 V to 5.5 V.", 4 VIN2/REFIN (in) "Analog Input 2/Voltage Reference Input. In single-channel mode, this pin becomes the reference voltage input; an external reference should be applied at this pin. The external reference input range is 1.2 V to VDD. A 0.1 uF (See Datasheet)", 5 VIN1 (in) "Analog Input 1. Single-ended analog input channel. The input range is 0 V to REFIN.", 6 AS (in) "Logic Input. Address select input that selects one of three I2C addresses for the AD7992, as shown in Table 6.", 7 AGND (power) "Analog Ground. Ground reference point for all circuitry on the AD7992. All analog input signals should be referred to this GND voltage.", 8 ALERT/BUSY (oc) "Digital Output. Selectable as an ALERT or BUSY output function. When configured as an ALERT, this pin acts as an out-of-range indicator and, if enabled, becomes active when the conversion result violates the DATAHIGH or (See Datasheet)", 9 SDA (io) "Digital I/O. Serial bus bidirectional data. Open-drain output. An external pull-up resistor is required.", 10 SCL (in) "Digital Input. Serial bus clock. Open-drain output. An external pull-up resistor is required."

## AD7993BRU-0
designator U?
Quad 10-Bit Analog-to-Digital Converter with I2C / Serial 2-Wire, Serial Interface, 188KSPS, -40 to +125 degC, RU-16, Tube; Part Number: AD7993; Manufacturer: Analog Devices; Resolution (Bits): 10; Channels: 4; Throughput Rate (SPS): 188K; Interface: I2C/Ser 2-Wire, Ser; DatasheetVersion: Rev.0; PackageVersion: Nov-2002; PackageReference: RU-16; PackageDescription: 16-Lead Thin Shrink Small Outline Package [TSSOP]; RoHS: N; Packing: Tube; Mounting Technology: Surface Mount; Code_JEDEC: MO-153-AB; ComponentLink1Description: Manufacturer URL; ComponentLink1URL: http://www.analog.com/en/index.html; ComponentLink2Description: Datasheet; ComponentLink2URL: http://www.analog.com/static/imported-files/data_sheets/AD7993_7994.pdf; ComponentLink3Description: Package Specification; ComponentLink3URL: http://www.analog.com/static/imported-files/packages/36244347913743854010197452789RU16.pdf; ComponentLink4Description: Product URL; ComponentLink4URL: http://www.analog.com/en/analog-to-digital-converters/ad-converters/ad7993/products/product.html
footprint RU-16_N (TSOP, 16-Leads, Body 5x4.4mm, Pitch 0.65mm, IPC Medium Density)
footprint RU-16_L (TSOP, 16-Leads, Body 5x4.4mm, Pitch 0.65mm, IPC High Density)
footprint RU-16_M (TSOP, 16-Leads, Body 5x4.4mm, Pitch 0.65mm, IPC Low Density)
pins: 1 AGND (power) "Analog Ground. Ground reference point for all circuitry on the AD7993/AD7994. All analog input signals should be referred to this AGND voltage.", 2 AGND (power) "Analog Ground. Ground reference point for all circuitry on the AD7993/AD7994. All analog input signals should be referred to this AGND voltage.", 3 AGND (power) "Analog Ground. Ground reference point for all circuitry on the AD7993/AD7994. All analog input signals should be referred to this AGND voltage.", 4 AGND (power) "Analog Ground. Ground reference point for all circuitry on the AD7993/AD7994. All analog input signals should be referred to this AGND voltage.", 5 VDD (power) "Power Supply Input. The VDD range for the AD7993/AD7994 is from 2.7 V to 5.5 V.", 6 REFIN (in) "Voltage Reference Input. The external reference for the AD7993/AD7994 should be applied to this input pin. The voltage range for the external reference is 1.2 V to VDD. A 0.1 uF and 1 uF capacitor should be placed between (See Datasheet)", 7 VIN1 (in) "Analog Input 1. Single-ended analog input channel. The input range is 0 V to REFIN.", 8 VIN3 (in) "Analog Input 3. Single-ended analog input channel. The input range is 0 V to REFIN.", 9 VIN4 (in) "Analog Input 4. Single-ended analog input channel. The input range is 0 V to REFIN.", 10 VIN2 (in) "Analog Input 2. Single-ended analog input channel. The input range is 0 V to REFIN.", 11 AS (in) "Logic Input. Address select input that selects one of three I2C addresses for the AD7993/AD7994, as shown in Table 6. The device address depends on the voltage applied to this pin.", 12 ~{CONVST} (in) "Logic Input Signal/Convert Start Signal. This is an edge-triggered logic input. The rising edge of this signal powers up the part. The power-up time for the part is 1 us. The falling edge of C\O\N\V\S\T\ places the (See Datasheet)", 13 ALERT/BUSY (oc) "Digital Output, Selectable as an ALERT or BUSY Output Function. When configured as an ALERT, this pin acts as an out-of-range indicator and, if enabled, becomes active when the conversion result violates the DATAHIGH or (See Datasheet)", 14 SDA (io) "Digital I/O. Serial bus bidirectional data. Open-drain output. External pull-up resistor required.", 15 SCL (in) "Digital Input. Serial bus clock. External pull-up resistor required.", 16 AGND (power) "Analog Ground. Ground reference point for all circuitry on the AD7993/AD7994. All analog input signals should be referred to this AGND voltage."